# Altium integrated library FM24CL64B.IntLib: 1 symbol
Pins are listed as number, name and electrical type; pins without a type are passive.

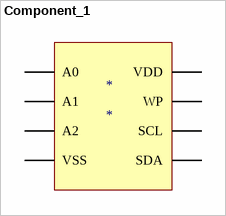
[diagram p0: symbol Component_1]

## Component_1
designator *
footprint SOIC127P602X172-8N
pins: 0 A0, 1 A1, 2 A2, 3 VSS, 4 SDA, 5 SCL, 6 WP, 7 VDD